# Altium schematic symbol library Schlib1.SchLib: 24 symbols
Pins are listed as number, name and electrical type; pins without a type are passive.

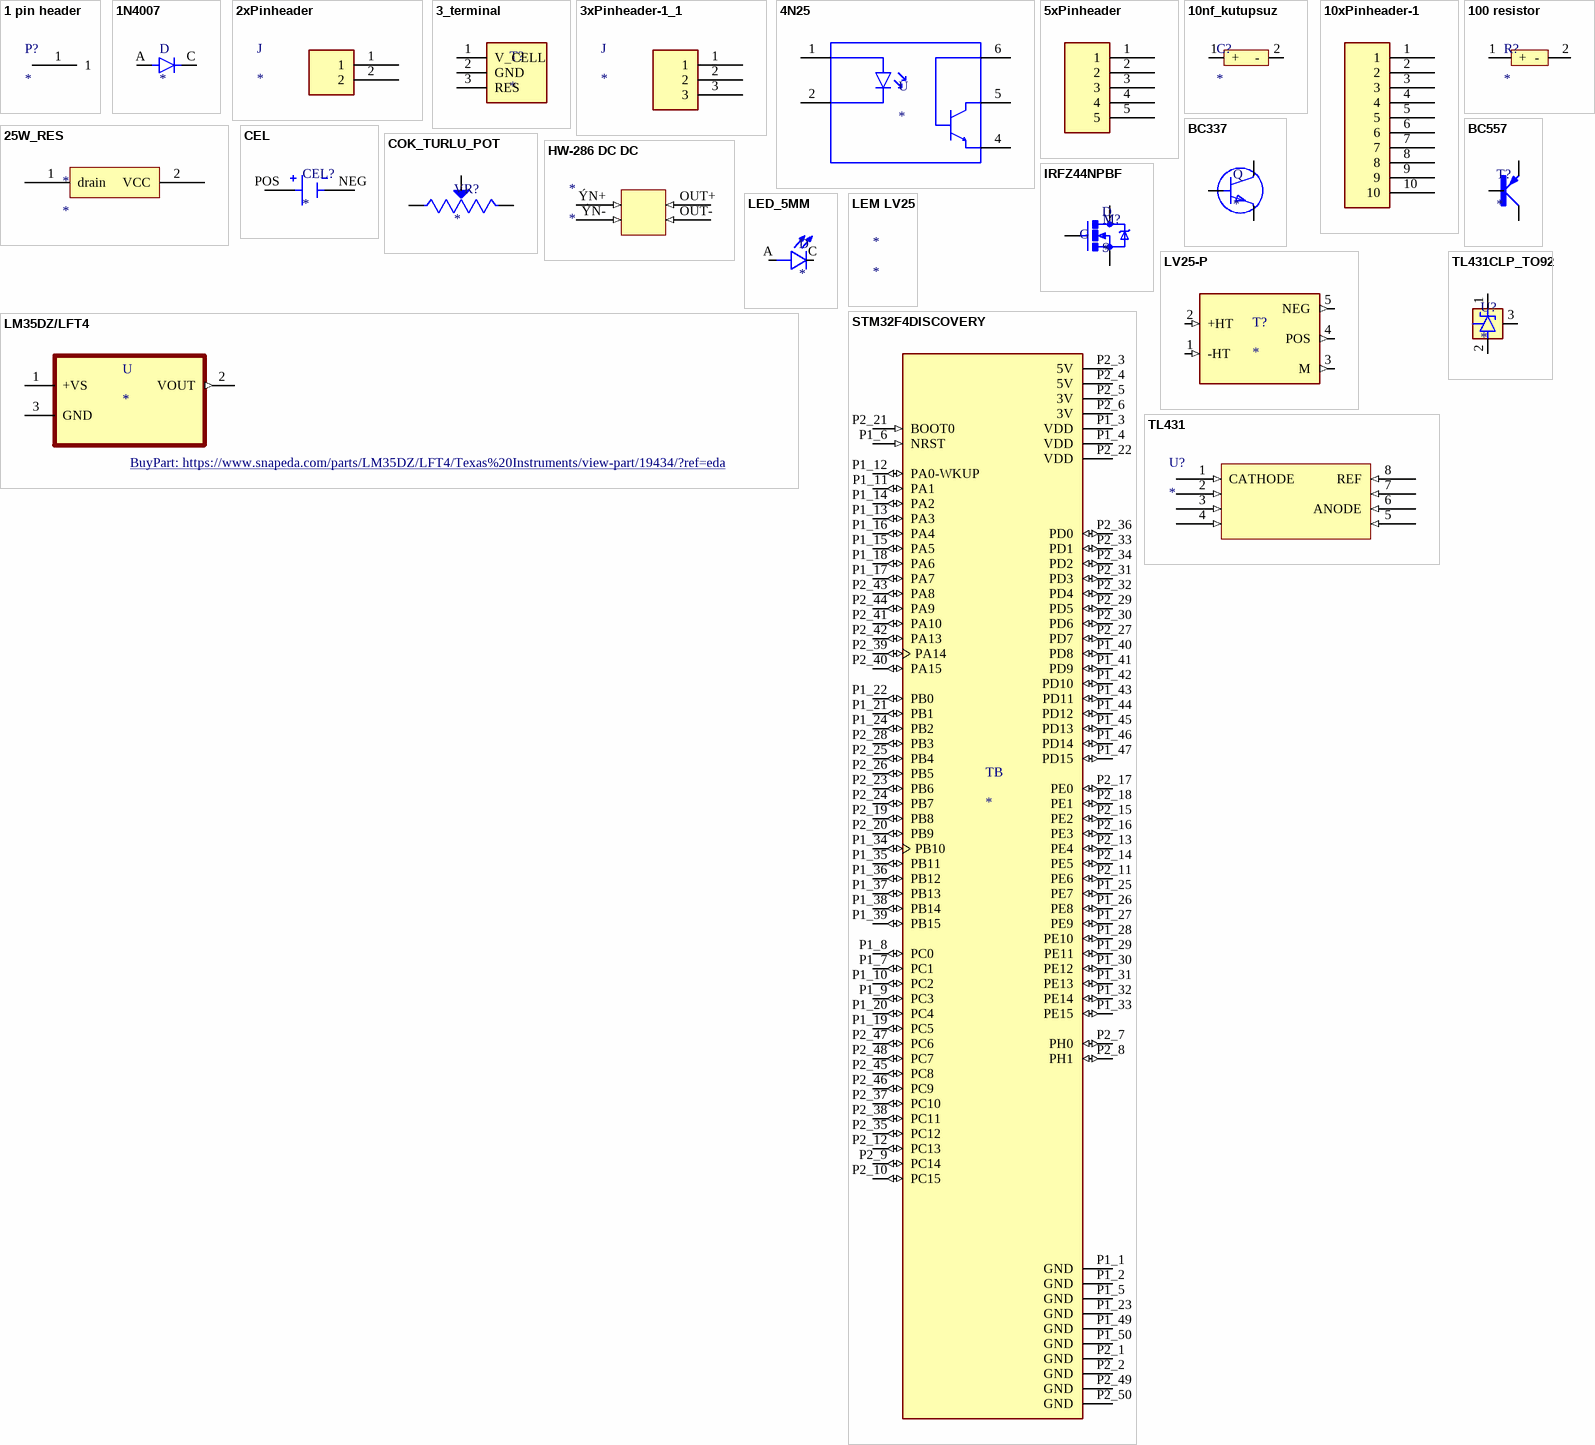
[diagram p0: symbols 1 pin header to TL431CLP_TO92]

## 1 pin header
designator P?
footprint 1pinheader
pins: 1

## 1N4007
designator D
Diode Standard 1000V 1A Through Hole DO-204AL _DO-41_; MF: ON Semiconductor; MP: 1N4007; Package: DO-41 Good-Ark; Value: *; Price: None; Availability: Unavailable; SnapEDA_Link: https://www.snapeda.com/parts/1N4007/ON%20Semiconductor/view-part/2816213/?ref=snap
footprint 1N4007
pins: A, C

## 2xPinheader
designator J
Pin header; pin strips; male; PIN: 50; straight; 2.54mm; THT; 1x50; MF: TE Connectivity; MP: 5-825433-0; Package: None; Value: *; TE_purchase_URL: https://www.te.com/usa-en/product-5-825433-0.html?te_bu=Cor&te_type=disp&te_campaign=seda_glo_cor-seda-global-disp-prtnr-fy19-seda-model-bom-cta_sma-317_1&elqCampaignId=32493; Price: None; SnapEDA_Link: https://www.snapeda.com/parts/5-825433-0/TE%20Connectivity%20AMP%20Connectors/view-part/499889/?ref=snap; Availability: Unavailable; EU_RoHS_Compliance: Compliant
footprint 2XHEADER1
pins: 1, 2

## 3_terminal
designator T?
3 POS 5.08MM TERMI-BLOK; MP: 1546073-3; MF: TE Connectivity; TE_purchase_URL: https://www.te.com/usa-en/product-1546073-3.html?te_bu=Cor&te_type=disp&te_campaign=seda_glo_cor-seda-global-disp-prtnr-fy19-seda-model-bom-cta_sma-317_1&elqCampaignId=32493; Package: None; SnapEDA_Link: https://www.snapeda.com/parts/1546073-3/TE%20Connectivity/view-part/584203/?ref=snap; Value: *; Availability: Unavailable; EU_RoHS_Compliance: Compliant with Exemptions; Price: None
footprint 3_terminal
pins: 1 V_CELL, 2 GND, 3 RES

## 3xPinheader-1_1
designator J
Pin header; pin strips; male; PIN: 50; straight; 2.54mm; THT; 1x50; MF: TE Connectivity; MP: 5-825433-0; Package: None; Value: *; TE_purchase_URL: https://www.te.com/usa-en/product-5-825433-0.html?te_bu=Cor&te_type=disp&te_campaign=seda_glo_cor-seda-global-disp-prtnr-fy19-seda-model-bom-cta_sma-317_1&elqCampaignId=32493; Price: None; SnapEDA_Link: https://www.snapeda.com/parts/5-825433-0/TE%20Connectivity%20AMP%20Connectors/view-part/499889/?ref=snap; Availability: Unavailable; EU_RoHS_Compliance: Compliant
footprint 3XHEADER1
pins: 1, 2, 3

## 4N25
designator U
Optoisolator Transistor with Base Output 5000Vrms 1 Channel 6-DIP; MF: Vishay Semiconductor; MP: 4N25; Package: DIP-6 Lite-On; Value: *; Price: None; SnapEDA_Link: https://www.snapeda.com/parts/4N25/Vishay%20Semiconductor%20Opto%20Division/view-part/641454/?ref=snap; Availability: Unavailable
footprint 4N25-OPTO
pins: 1 A, 2 K, 4 E, 5 C, 6 B

## 5xPinheader
designator J  (value not drawn)
MF: TE Connectivity; MP: 5-825433-0; Package: None; Value: *; TE_purchase_URL: https://www.te.com/usa-en/product-5-825433-0.html?te_bu=Cor&te_type=disp&te_campaign=seda_glo_cor-seda-global-disp-prtnr-fy19-seda-model-bom-cta_sma-317_1&elqCampaignId=32493; Price: None; SnapEDA_Link: https://www.snapeda.com/parts/5-825433-0/TE%20Connectivity%20AMP%20Connectors/view-part/499889/?ref=snap; Availability: Unavailable; EU_RoHS_Compliance: Compliant
footprint 5XHEADER
pins: 1, 2, 3, 4, 5

## 10nf_kutupsuz
designator C?
footprint 10NF_KUTUPSUZ
pins: 1 +, 2 -

## 10xPinheader-1
designator J  (value not drawn)
MF: TE Connectivity; MP: 5-825433-0; Package: None; Value: *; TE_purchase_URL: https://www.te.com/usa-en/product-5-825433-0.html?te_bu=Cor&te_type=disp&te_campaign=seda_glo_cor-seda-global-disp-prtnr-fy19-seda-model-bom-cta_sma-317_1&elqCampaignId=32493; Price: None; SnapEDA_Link: https://www.snapeda.com/parts/5-825433-0/TE%20Connectivity%20AMP%20Connectors/view-part/499889/?ref=snap; Availability: Unavailable; EU_RoHS_Compliance: Compliant
footprint 10XHEADER1 - duplicate
pins: 1, 2, 3, 4, 5, 6, 7, 8, 9, 10

## 25W_RES
designator *
footprint 25W_RES
pins: 1 drain, 2 VCC

## 100 resistor
designator R?
footprint 100 resistor
pins: 1 +, 2 -

## BC337
designator Q
Bipolar (BJT) Transistor NPN 45V 800mA 100MHz 625mW Through Hole TO-92-3; MP: BC337; MF: ON Semiconductor; Availability: Unavailable; Package: TO-92 ON Semiconductor; SnapEDA_Link: https://www.snapeda.com/parts/BC337/ON%20Semiconductor/view-part/2772334/?ref=snap; Value: *; Price: None
footprint TO-92R
pins: 1 E, 2 B, 3 C

## BC557
designator T?
Bipolar _BJT_ Transistor PNP 45V 100mA 150MHz 500mW Through Hole TO-92-3; MP: BC557; MF: ON; Price: None; SnapEDA_Link: https://www.snapeda.com/parts/BC557/ON%20Semiconductor/view-part/681642/?ref=snap; Package: TO-92 Rochester Electronics; Value: *; Availability: Unavailable
footprint BC557
pins: B, C, E

## CEL
designator CEL?
BATTERY HOLDER AA 2 CELL SMD TAB; MF: MPD; MP: BA2AAPC-UL94V-0; Value: *; Price: None; Package: None; Check_prices: https://www.snapeda.com/parts/BA2AAPC-UL94V-0/MPD/view-part/4389111/?ref=eda; Availability: Warning; SnapEDA_Link: https://www.snapeda.com/parts/BA2AAPC-UL94V-0/MPD/view-part/4389111/?ref=snap; Purchase-URL: https://pricing.snapeda.com/search/part/BA2AAPC-UL94V-0/?ref=eda
footprint BAT_BA2AAPC-UL94V-0
pins: NEG, POS

## COK_TURLU_POT
designator VR?
30 kOhms 0.5W, 1/2W PC Pins Through Hole Trimmer Potentiometer Cermet 25 Turn Top Adjustment; MP: 3296W-1-303; MF: Bourns; Check_prices: https://www.snapeda.com/parts/3296W-1-303/Bourns/view-part/1485011/?ref=eda; Value: *; Availability: Unavailable; Price: None; Package: SOT-23-5 Bourns; SnapEDA_Link: https://www.snapeda.com/parts/3296W-1-303/Bourns/view-part/1485011/?ref=snap
footprint COK_TURLU_POT
pins: 1 CCW, 2 WIPER, 3 CW

## HW-286 DC DC
designator *
footprint HW-286 DC DC
pins: OUT+ (in), OUT- (in), ÝN+ (in), ÝN- (in)

## IRFZ44NPBF
designator M?
RoHS Compliant | Low RDS_on_ | Industry-leading quality | Dynamic dv/dt Rating | Fast Switching | Fully Avalanche Rated | 175C Operating Temperature; MP: IRFZ44NPBF; MF: Infineon; Price: None; SnapEDA_Link: https://www.snapeda.com/parts/IRFZ44NPBF/Infineon%20Technologies/view-part/1662576/?ref=snap; Package: TO-220 Infineon; Value: *; Availability: Unavailable
footprint IRFZ44N
pins: 1 G, 2 D, 3 S

## LED_5MM
designator D
LED; 5mm; green; 5-32mcd; 60Â°; Front: convex; MF: Kingbright; MP: L-53GD; Availability: Unavailable; SnapEDA_Link: https://www.snapeda.com/parts/L-53GD/Kingbright/view-part/525636/?ref=snap; Price: None; Package: CDIP-28 Kingbright; Value: *
footprint LED_5MM
pins: A, C

## LEM LV25
designator *

## LM35DZ/LFT4
designator U
&plusmn;0.5&deg;C 4V-30V, Temperature sensor with analog output 3-TO-92; MF: Texas Instruments; MP: LM35DZ/LFT4; Texas_Instruments-Purchase-URL: https://snapeda.com/shop?store=Texas+Instruments&id=19434; Availability: Warning; Mouser-Purchase-URL: https://snapeda.com/shop?store=Mouser&id=19434; Price: None; DigiKey-Purchase-URL: https://snapeda.com/shop?store=DigiKey&id=19434; Package: TO-92-3 Texas Instruments; Value: *; SnapEDA_Link: https://www.snapeda.com/parts/LM35DZ/LFT4/Texas%20Instruments/view-part/19434/?ref=snap; BuyPart: https://www.snapeda.com/parts/LM35DZ/LFT4/Texas%20Instruments/view-part/19434/?ref=eda
footprint TO127P254X495-3P
pins: 1 +VS (power), 2 VOUT (out), 3 GND

## LV25-P
designator T?
Voltage, Closed Loop Sensor Voltage Output; MF: LEM USA Inc.; MP: LV 25-P; SnapEDA_Link: https://www.snapeda.com/parts/LV%2025-P/LEM%20USA%20Inc./view-part/5138977/?ref=snap; Digi-Key_Part_Number: 398-1019-ND; Value: *; Check_prices: https://www.snapeda.com/parts/LV%2025-P/LEM%20USA%20Inc./view-part/5138977/?ref=eda; Package: None
footprint XDCR_LV25-P
pins: 1 -HT (in), 2 +HT (in), 3 M (out), 4 POS (out), 5 NEG (out)

## STM32F4DISCOVERY
designator TB
STM32F407VGT6 Discovery STM32F4 ARMÂ® CortexÂ®-M4 MCU 32-Bit Embedded Evaluation Board; MP: STM32F4DISCOVERY; MF: STMicroelectronics; Package: None; Price: None; Availability: Unavailable; Value: *; SnapEDA_Link: https://www.snapeda.com/parts/STM32F4DISCOVERY/STMicroelectronics/view-part/46335/?ref=snap
footprint STM32F4DISCOVERY
pins: P1_1 GND (power), P1_2 GND (power), P1_3 VDD (power), P1_4 VDD (power), P1_5 GND (power), P1_6 NRST (in), P1_7 PC1 (io), P1_8 PC0 (io), P1_9 PC3 (io), P1_10 PC2 (io), P1_11 PA1 (io), P1_12 PA0-WKUP (io), P1_13 PA3 (io), P1_14 PA2 (io), P1_15 PA5 (io), P1_16 PA4 (io), P1_17 PA7 (io), P1_18 PA6 (io), P1_19 PC5 (io), P1_20 PC4 (io), P1_21 PB1 (io), P1_22 PB0 (io), P1_23 GND (power), P1_24 PB2 (io), P1_25 PE7 (io), P1_26 PE8 (io), P1_27 PE9 (io), P1_28 PE10 (io), P1_29 PE11 (io), P1_30 PE12 (io), P1_31 PE13 (io), P1_32 PE14 (io), P1_33 PE15 (io), P1_34 PB10 (io), P1_35 PB11 (io), P1_36 PB12 (io), P1_37 PB13 (io), P1_38 PB14 (io), P1_39 PB15 (io), P1_40 PD8 (io), P1_41 PD9 (io), P1_42 PD10 (io), P1_43 PD11 (io), P1_44 PD12 (io), P1_45 PD13 (io), P1_46 PD14 (io), P1_47 PD15 (io), P1_49 GND (power), P1_50 GND (power), P2_1 GND (power), P2_2 GND (power), P2_3 5V (power), P2_4 5V (power), P2_5 3V (power), P2_6 3V (power), P2_7 PH0 (io), P2_8 PH1 (io), P2_9 PC14 (io), P2_10 PC15 (io), P2_11 PE6 (io), P2_12 PC13 (io), P2_13 PE4 (io), P2_14 PE5 (io), P2_15 PE2 (io), P2_16 PE3 (io), P2_17 PE0 (io), P2_18 PE1 (io), P2_19 PB8 (io), P2_20 PB9 (io), P2_21 BOOT0 (in), P2_22 VDD (power), P2_23 PB6 (io), P2_24 PB7 (io), P2_25 PB4 (io), P2_26 PB5 (io), P2_27 PD7 (io), P2_28 PB3 (io), P2_29 PD5 (io), P2_30 PD6 (io), P2_31 PD3 (io), P2_32 PD4 (io), P2_33 PD1 (io), P2_34 PD2 (io), P2_35 PC12 (io), P2_36 PD0 (io), P2_37 PC10 (io), P2_38 PC11 (io), P2_39 PA14 (io), P2_40 PA15 (io), P2_41 PA10 (io), P2_42 PA13 (io), P2_43 PA8 (io), P2_44 PA9 (io), P2_45 PC8 (io), P2_46 PC9 (io), P2_47 PC6 (io), P2_48 PC7 (io), P2_49 GND (power), P2_50 GND (power)

## TL431
designator U?
footprint TL431_DIP8
pins: 1 CATHODE (in), 2 (in), 3 (in), 4 (in), 5 (in), 6 ANODE (in), 7 (in), 8 REF (in)

## TL431CLP_TO92
designator U?
Adjustable precision shunt regulator 3-TO-92 0 to 70; MP: TL431CLP; MF: Texas Instruments; Purchase-URL: https://pricing.snapeda.com/search/part/TL431CLP/?ref=eda; Price: None; Package: TO-92 Texas Instruments; Check_prices: https://www.snapeda.com/parts/TL431CLP/Texas%20Instruments/view-part/4478972/?ref=eda; Value: *; Availability: Good; SnapEDA_Link: https://www.snapeda.com/parts/TL431CLP/Texas%20Instruments/view-part/4478972/?ref=snap
footprint TL432_TO92
pins: 1 CATHODE, 2 ANODE, 3 REF